# EAGLE library part SPO256 (library 8Bit_Parts)
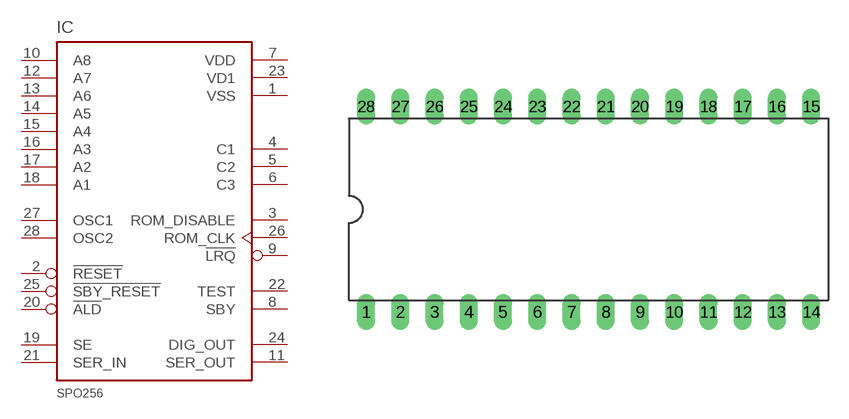
[diagram p8: symbol with the pads of DIL28; footprint DIL28]

Designator prefix IC

## SPO256  [DIL28]
1  VSS  pwr
2  !RESET  in
3  ROM_DISABLE  out
4  C1  out
5  C2  out
6  C3  out
7  VDD  pwr
8  SBY  out
9  !LRQ  out
10  A8  in
11  SER_OUT  out
12  A7  in
13  A6  in
14  A5  in
15  A4  in
16  A3  in
17  A2  in
18  A1  in
19  SE  in
20  !ALD  in
21  SER_IN  in
22  TEST  nc
23  VD1  pwr
24  DIG_OUT  out
25  !SBY_RESET  in
26  ROM_CLK  out
27  OSC1  in
28  OSC2  in

## Footprint DIL28 (pad centres in mm)
Dual In Line Package
drill 0.813 long: 1 -16.51,-7.62; 2 -13.97,-7.62; 3 -11.43,-7.62; 4 -8.89,-7.62; 5 -6.35,-7.62; 6 -3.81,-7.62; 7 -1.27,-7.62; 8 1.27,-7.62; 9 3.81,-7.62; 10 6.35,-7.62; 11 8.89,-7.62; 12 11.43,-7.62; 13 13.97,-7.62; 14 16.51,-7.62; 15 16.51,7.62; 16 13.97,7.62; 17 11.43,7.62; 18 8.89,7.62; 19 6.35,7.62; 20 3.81,7.62; 21 1.27,7.62; 22 -1.27,7.62; 23 -3.81,7.62; 24 -6.35,7.62; 25 -8.89,7.62; 26 -11.43,7.62; 27 -13.97,7.62; 28 -16.51,7.62